# EAGLE library part ATMEGA328P-PU (library Kunosheru)
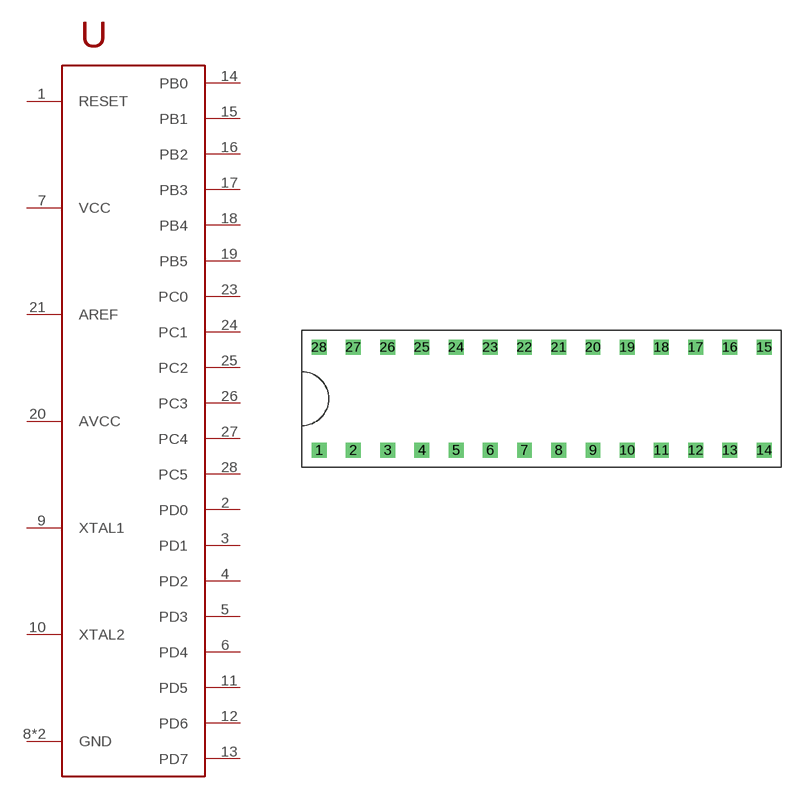
[diagram p3: symbol with the pads of DIP-28; footprint DIP-28]

Designator prefix -

## ATMEGA328P-PU  [DIP-28]
1  RESET
2  PD0
3  PD1
4  PD2
5  PD3
6  PD4
7  VCC
8  GND
9  XTAL1
10  XTAL2
11  PD5
12  PD6
13  PD7
14  PB0
15  PB1
16  PB2
17  PB3
18  PB4
19  PB5
20  AVCC
21  AREF
22  GND
23  PC0
24  PC1
25  PC2
26  PC3
27  PC4
28  PC5

## Footprint DIP-28 (pad centres in mm)
drill 0.6 square: 1 -16.51,-3.82; 2 -13.97,-3.82; 3 -11.43,-3.82; 4 -8.89,-3.82; 5 -6.35,-3.82; 6 -3.81,-3.82; 7 -1.27,-3.82; 8 1.27,-3.82; 9 3.81,-3.82; 10 6.35,-3.82; 11 8.89,-3.82; 12 11.43,-3.82; 13 13.97,-3.82; 14 16.51,-3.82; 15 16.51,3.82; 16 13.97,3.82; 17 11.43,3.82; 18 8.89,3.82; 19 6.35,3.82; 20 3.81,3.82; 21 1.27,3.82; 22 -1.27,3.82; 23 -3.81,3.82; 24 -6.35,3.82; 25 -8.89,3.82; 26 -11.43,3.82; 27 -13.97,3.82; 28 -16.51,3.82